# Altium schematic symbol library ECA1HM100.SchLib: 1 symbol
Pins are listed as number, name and electrical type; pins without a type are passive.

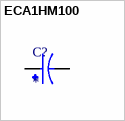
[diagram p0: symbol ECA1HM100]

## ECA1HM100
designator C?
10F 50V Aluminum Electrolytic Capacitors Radial, Can 2000 Hrs @ 85C; MF: Panasonic; MP: ECA-1HM100; Price: None; Value: *; Purchase-URL: https://pricing.snapeda.com/search/part/ECA-1HM100/?ref=eda; Check_prices: https://www.snapeda.com/parts/ECA-1HM100/Panasonic+Electronic+Components/view-part/?ref=eda; Package: RADIAL-2 Panasonic; Availability: In Stock; SnapEDA_Link: https://www.snapeda.com/parts/ECA-1HM100/Panasonic+Electronic+Components/view-part/?ref=snap
footprint CAPPRD200W50D500H1100
pins: N, P